# Altium footprint library inductors.PcbLib: 2 footprints
Each footprint in its own frame and in the unit in brackets; x right, y up, seen from the top. Pads: shape width x height; smd on the part's side, far side on the other; paste and mask are expansions set on the pad; w line width, h text height; cw(c..) or ccw(c..) is an arc to the next point about the centre after c.
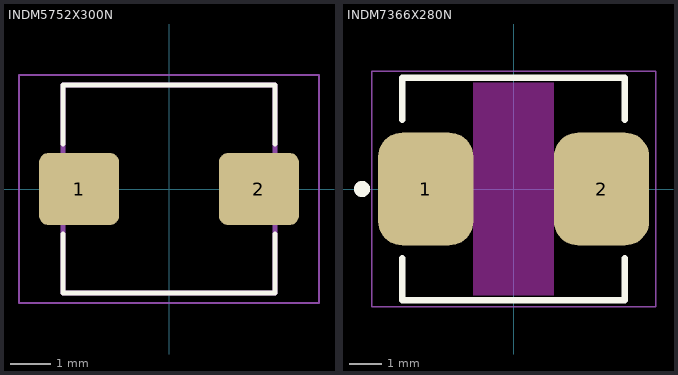
[diagram p0: the footprints below, top view; thin cyan lines are the x and y axes]

## INDM5752X300N [mm]
pads (2):
  rrect25% 2x1.8 smd: 1(-2.25,0) 2(2.25,0)
Top Overlay:
  lines w0.127: -2.65,-1.13 -2.65,-2.6 2.65,-2.6 2.65,-1.13 ; -2.65,1.13 -2.65,2.6 2.65,2.6 2.65,1.13
Top 3D Body:
  lines w0.127: -2.65,-2.6 -2.65,2.6 2.65,2.6 2.65,-2.6 -2.65,-2.6
Top Courtyard:
  lines w0.05: -3.755,-2.85 3.755,-2.85 3.755,2.85 -3.755,2.85 -3.755,-2.85
3D body "step_temp.STEP": height 3, standoff 0, extent -2.85,-2.6 2.85,2.6

## INDM7366X280N [mm]
pads (2):
  rrect50% 2.95x3.5 smd: 1(-2.725,0) 2(2.725,0)
Top Overlay:
  circle w0.25: c-4.7,0 r0.125
  lines w0.2: -3.45,-2.15 -3.45,-3.45 3.45,-3.45 3.45,-2.15 ; -3.45,2.15 -3.45,3.45 3.45,3.45 3.45,2.15
Keep-Out Layer:
  region: 1.25,-3.3 -1.25,-3.3 -1.25,3.3 1.25,3.3
Top Courtyard:
  lines w0.05: -4.4,-3.65 -4.4,3.65 4.4,3.65 4.4,-3.65 -4.4,-3.65
3D body "IndHC7030_molded.stp": height 2.8, standoff 0, extent -3.65,-3.3 3.65,3.3